# Altium footprint library SATA-Power.PcbLib: 1 footprints
Each footprint in its own frame and in the unit in brackets; x right, y up, seen from the top. Pads: shape width x height; smd on the part's side, far side on the other; paste and mask are expansions set on the pad; w line width, h text height; cw(c..) or ccw(c..) is an arc to the next point about the centre after c.
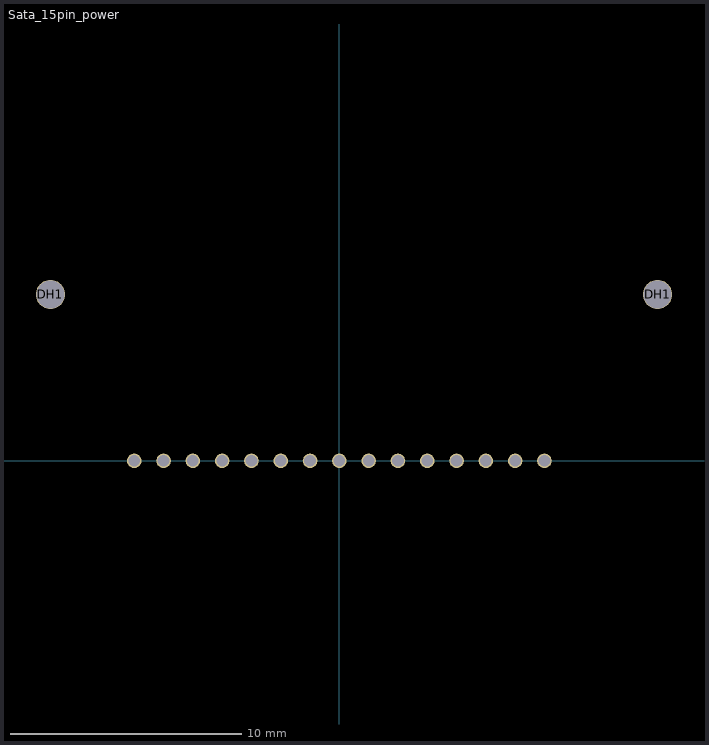
[diagram p0: the footprint, top view; thin cyan lines are the x and y axes]

## Sata_15pin_power [mil]
pads (17):
  round 25 hole 20: 3V3-1(250,0) 3V3-2(300,0) 3V3-3(350,0) 5V-1(-50,0) 5V-2(0,0) 5V-3(50,0) 12v-1(-350,0) 12v-2(-300,0) 12v-3(-250,0) GND-1(-200,0) GND-2(-150,0) GND-3(-100,0) GND-4(100,0) GND-5(150,0) GND-6(200,0)
  round 50 hole 47.24 unplated: DH1(-493,284) DH1(543,284)